# Altium schematic symbol library AHD Part Library.SchLib: 35 symbols
Pins are listed as number, name and electrical type; pins without a type are passive.

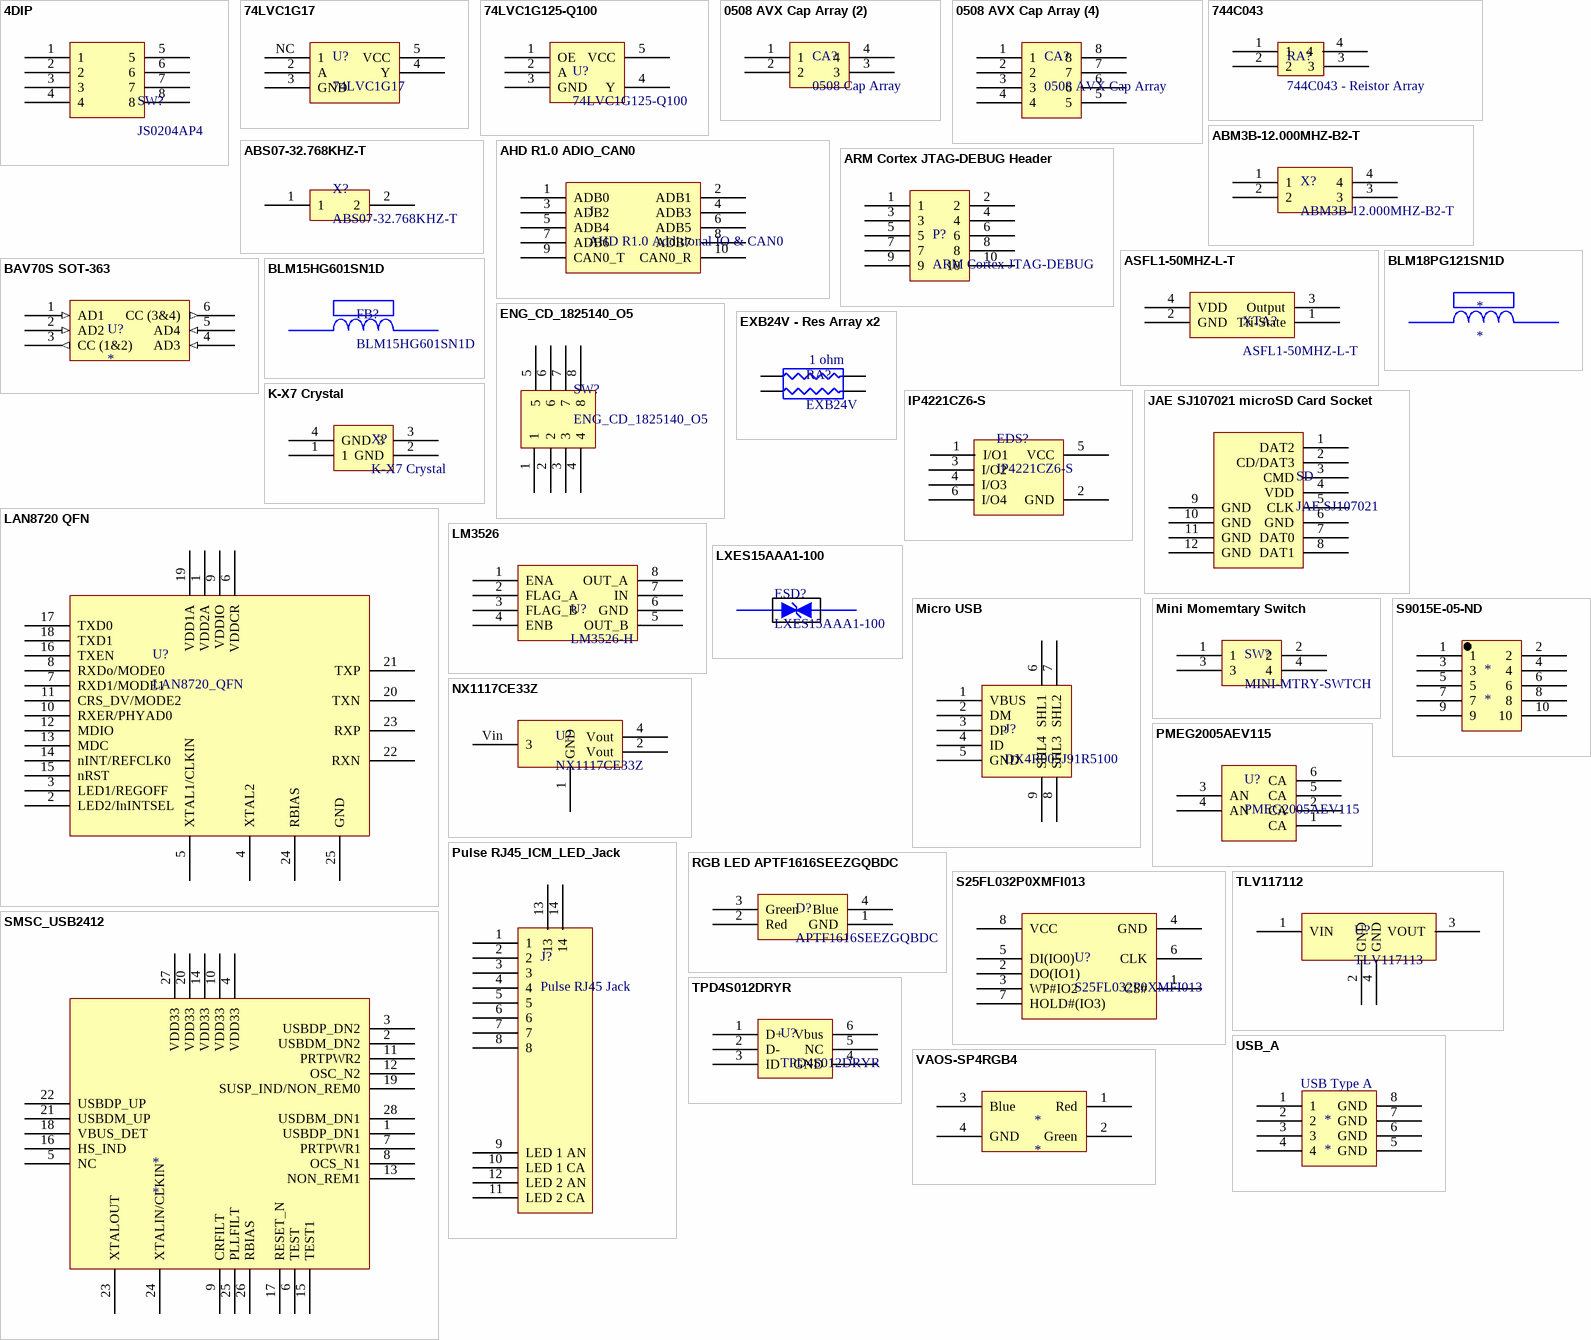
[diagram p0: symbols 4DIP to VAOS-SP4RGB4]

## 4DIP
designator SW?, comment JS0204AP4
footprint JS0204AP4 (4DIP)
pins: 1, 2, 3, 4, 5, 6, 7, 8

## 74LVC1G17
designator U?
footprint 74LVC1G17
pins: 2 A, 3 GND, 4 Y, 5 VCC, NC 1

## 74LVC1G125-Q100
designator U?
footprint 74LVC1G125-Q100 (Line Driver Buffer)
pins: 1 OE, 2 A, 3 GND, 4 Y, 5 VCC

## 0508 AVX Cap Array (2)
designator CA?, comment 0508 Cap Array
footprint 0508 AVX (2) Cap Array (Capacator Array 0508)
pins: 1, 2, 3, 4

## 0508 AVX Cap Array (4)
designator CA?, comment 0508 AVX Cap Array
Capacitor Array
footprint 0508 Cap Array (4) (Capacitor Array)
pins: 1, 2, 3, 4, 5, 6, 7, 8

## 744C043
designator RA?, comment 744C043 - Reistor Array
Resistor Array
footprint 744C0403 (Resistor Array)
pins: 1, 2, 3, 4

## ABM3B-12.000MHZ-B2-T
designator X?
footprint ABM3B-12.000MHZ-B2-T (ABM3B-12.000MHZ-B2-T 12MHZ Crystam Oscillator)
pins: 1, 2, 3, 4

## ABS07-32.768KHZ-T
designator X?
ABS07-32.768KHZ-T RTC Crystal Oscillator
footprint ABS07-32.768KHZ-T (ABS07-32.768KHZ-T Crystal Oscillator)
pins: 1, 2

## AHD R1.0 ADIO_CAN0
designator J, comment AHD R1.0 Additional IO & CAN0
AHD R1.0 Additional Digital IO & CAN0 Breakout
footprint HDR2X5
pins: 1 ADB0, 2 ADB1, 3 ADB2, 4 ADB3, 5 ADB4, 6 ADB5, 7 ADB6, 8 ADB7, 9 CAN0_T, 10 CAN0_R

## ARM Cortex JTAG-DEBUG Header
designator P?, comment ARM Cortex JTAG-DEBUG
footprint FTSH-105-XX-X-DV (1.27mm pitch, 10 pin, terminal strip; vertical, SMT)
pins: 1, 2, 3, 4, 5, 6, 7, 8, 9, 10

## ASFL1-50MHZ-L-T
designator XTA?
footprint ASFL1-50MHZ-L-T (Abracon ASFL1-50MHZ-L-T 50MHZ Crystal Oscillator)
pins: 1 Tri-State, 2 GND, 3 Output, 4 VDD

## BAV70S SOT-363
designator U?
footprint BAV70S_SOT363 (SOT23, 6-Leads, Body 2.2x2.2mm (max), Pitch 0.65mm, IPC Medium Density)
pins: 1 AD1 (in) "Anode (Diode 1)", 2 AD2 (in) "Anode (Diode 2)", 3 CC (1&2) (out) "Common Cathode 1 & 2", 4 AD3 (in) "Anode Diode 3", 5 AD4 (in) "Anode Diode 4", 6 CC (3&4) (out) "Common Cathode 3&4"

## BLM15HG601SN1D
designator FB?
footprint BLM18PG121SN1D (Chip Inductor, 2-Leads, Body 1.0x0.5mm, IPC Medium Density)
pins: 1, 2

## BLM18PG121SN1D
designator *
footprint BLM18PG121SN1D (Chip Inductor, 2-Leads, Body 1.0x0.5mm, IPC Medium Density)
pins: 1, 2

## ENG_CD_1825140_O5
designator SW?
4 Dip Siwtch
footprint ENG_CD_1825140_O5 (4 DIP)
pins: 1, 2, 3, 4, 5, 6, 7, 8

## EXB24V - Res Array x2
designator RA?, comment EXB24V  value 1 ohm
footprint EXB24V - Res Array x2 (Panasonic Resistor Array)
pins: 1, 2, 3, 4

## IP4221CZ6-S
designator EDS?
footprint IP4221CZ6-S (ESD Protection IC)
pins: 1 I/O1, 2 GND, 3 I/O2, 4 I/O3, 5 VCC, 6 I/O4

## JAE SJ107021 microSD Card Socket
designator SD, comment JAE SJ107021
footprint JAE SJ107021 (JAE SJ107021 microSD Socket)
pins: 1 DAT2, 2 CD/DAT3, 3 CMD, 4 VDD, 5 CLK, 6 GND, 7 DAT0, 8 DAT1, 9 GND, 10 GND, 11 GND, 12 GND

## K-X7 Crystal
designator X?
Crystal Oscillator; Value: ?Hz
footprint KX-7 (Crystal Oscillator)
pins: 1, 2 GND, 3, 4 GND

## LAN8720 QFN
designator U?, comment LAN8720_QFN
footprint LAN8720_QFN (QFN, 24-Leads, Body 4.1x4.1mm (max), Pitch 0.50mm, IPC Medium Density)
pins: 1 VDD2A, 2 LED2/InINTSEL, 3 LED1/REGOFF, 4 XTAL2, 5 XTAL1/CLKIN, 6 VDDCR, 7 RXD1/MODE1, 8 RXDo/MODE0, 9 VDDIO, 10 RXER/PHYAD0, 11 CRS_DV/MODE2, 12 MDIO, 13 MDC, 14 nINT/REFCLK0, 15 nRST, 16 TXEN, 17 TXD0, 18 TXD1, 19 VDD1A, 20 TXN, 21 TXP, 22 RXN, 23 RXP, 24 RBIAS, 25 GND

## LM3526
designator U?, comment LM3526-H
pins: 1 ENA, 2 FLAG_A, 3 FLAG_B, 4 ENB, 5 OUT_B, 6 GND, 7 IN, 8 OUT_A

## LXES15AAA1-100
designator ESD?
Inline ESD protection Diode
footprint LXES ESD Device
pins: A, K

## Micro USB
designator J?, comment DX4R005J91R5100
Micro USB Jack B
footprint micro USB
pins: 1 VBUS, 2 DM, 3 DP, 4 ID, 5 GND, 6 SHL1, 7 SHL2, 8 SHL3, 9 SHL4

## Mini Momemtary Switch
designator SW?, comment MINI-MTRY-SWTCH
footprint Momentary Switch (Momentary switch for reset)
pins: 1, 2, 3, 4

## NX1117CE33Z
designator U?
3.3v Linear Regulator
footprint NX1117CE33Z (3.3v linear regulator)
pins: 1 GND, 2 Vout, 4 Vout, Vin 3

## PMEG2005AEV115
designator U?
pins: 1 CA, 2 CA, 3 AN, 4 AN, 5 CA, 6 CA

## Pulse RJ45_ICM_LED_Jack
designator J?, comment Pulse RJ45 Jack
footprint J0006D21BNL (RJ45 Integrated Magnetics and LEDs)
pins: 1, 2, 3, 4, 5, 6, 7, 8, 9 LED 1 AN, 10 LED 1 CA, 11 LED 2 CA, 12 LED 2 AN, 13, 14

## RGB LED APTF1616SEEZGQBDC
designator D?, comment APTF1616SEEZGQBDC
RGB LED
footprint RGB LED APTF1616SEEZGQBDC (RGB LED)
pins: 1 GND, 2 Red, 3 Green, 4 Blue

## S25FL032P0XMFI013
designator U?
footprint S25FL032P0XMFI013 (SOP, 8-Leads, Body 5.3x5.3mm (max), Pitch 1.27mm, IPC Medium Density)
pins: 1 CS#, 2 DO(IO1), 3 WP#IO2, 4 GND, 5 DI(IO0), 6 CLK, 7 HOLD#(IO3), 8 VCC

## S9015E-05-ND
designator *
footprint S9015E-05-ND (10 Pin Cortex JTAG Debug Header)
pins: 1, 2, 3, 4, 5, 6, 7, 8, 9, 10

## SMSC_USB2412
designator *
footprint SMSC_USB2412 (QFN, 28-Leads, Body 5.1x5.1mm (max), Pitch 0.50mm, IPC Medium Density)
pins: 1 USBDP_DN1, 2 USBDM_DN2, 3 USBDP_DN2, 4 VDD33, 5 NC, 6 TEST, 7 PRTPWR1, 8 OCS_N1, 9 CRFILT, 10 VDD33, 11 PRTPWR2, 12 OSC_N2, 13 NON_REM1, 14 VDD33, 15 TEST1, 16 HS_IND, 17 RESET_N, 18 VBUS_DET, 19 SUSP_IND/NON_REM0, 20 VDD33, 21 USBDM_UP, 22 USBDP_UP, 23 XTALOUT, 24 XTALIN/CLKIN, 25 PLLFILT, 26 RBIAS, 27 VDD33, 28 USDBM_DN1

## TLV117112
designator U?, comment TLV117113
Linear Regulator
footprint TLV117112 (SOT223, 4-Leads, Body 6.7x7.3mm (max), Pitch 2.30mm, IPC Medium Density)
pins: 1 VIN, 2 GND, 3 VOUT, 4 GND

## TPD4S012DRYR
designator U?
TPD4S012DRYR USB ESD Protection
pins: 1 D+, 2 D-, 3 ID, 4 GND, 5 NC, 6 Vbus

## USB_A
designator *
footprint USB-A-S-X-X-SM1
pins: 1, 2, 3, 4, 5 GND, 6 GND, 7 GND, 8 GND
text: USB Type A

## VAOS-SP4RGB4
designator *
footprint VAOS-SP4RGB4
pins: 1 Red, 2 Green, 3 Blue, 4 GND